# Altium integrated library Wuerth Elektronik Double Choke.IntLib: 55 symbols
Pins are listed as number, name and electrical type; pins without a type are passive.

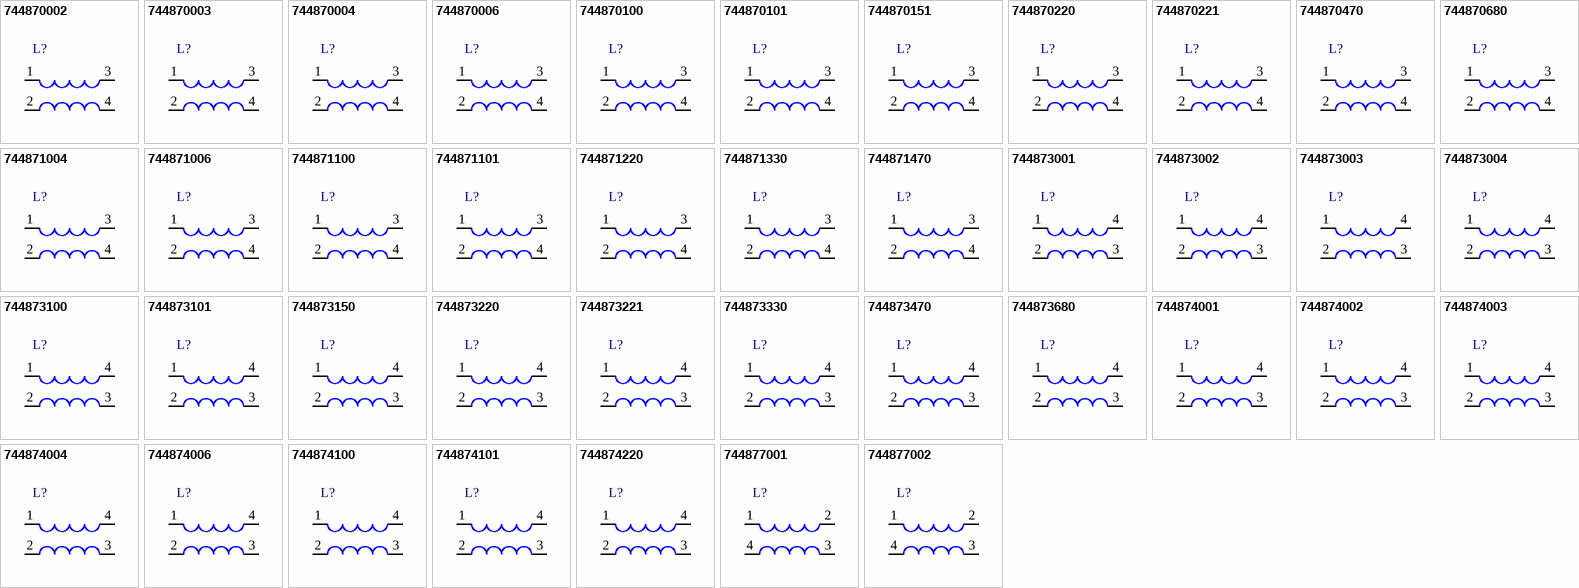
[diagram p0: symbols 744870002 to 744877002]

## 744870002
designator L?
SMD Shielded Coupled Inductor WE-DD, L = 2.40 µH; Inductance: 2.40 µH; DatasheetVersion: ver 1, Aug-2009; PackageVersion: 2006; PackageReference: WE-DD-XL; PackageDescription: SMD Inductor, 4-Leads, Body 12.5 x 12.5 mm; ComponentLink1Description: Manufacturer URL; ComponentLink1URL: http://www.we-online.com; ComponentLink2Description: Datasheet; ComponentLink2URL: http://www.we-online.de/katalog/media/pdf/744870002.pdf
footprint WE-DD-XL (SMD Inductor, 4-Leads, Body 12.5x12.5x8.5 mm)
pins: 1, 2, 3, 4

## 744870003
designator L?
SMD Shielded Coupled Inductor WE-DD, L = 3.30 µH; Inductance: 3.30 µH; DatasheetVersion: ver 1, Aug-2009; PackageVersion: 2006; PackageReference: WE-DD-XL; PackageDescription: SMD Inductor, 4-Leads, Body 12.5 x 12.5 mm; ComponentLink1Description: Manufacturer URL; ComponentLink1URL: http://www.we-online.com; ComponentLink2Description: Datasheet; ComponentLink2URL: http://www.we-online.de/katalog/media/pdf/744870003.pdf
footprint WE-DD-XL (SMD Inductor, 4-Leads, Body 12.5x12.5x8.5 mm)
pins: 1, 2, 3, 4

## 744870004
designator L?
SMD Shielded Coupled Inductor WE-DD, L = 4.70 µH; Inductance: 4.70 µH; DatasheetVersion: ver 7, Mar-2006; PackageVersion: 2006; PackageReference: WE-DD-XL; PackageDescription: SMD Inductor, 4-Leads, Body 12.5 x 12.5 mm; ComponentLink1Description: Manufacturer URL; ComponentLink1URL: http://www.we-online.com; ComponentLink2Description: Datasheet; ComponentLink2URL: http://www.we-online.de/katalog/media/pdf/744870004.pdf
footprint WE-DD-XL (SMD Inductor, 4-Leads, Body 12.5x12.5x8.5 mm)
pins: 1, 2, 3, 4

## 744870006
designator L?
SMD Shielded Coupled Inductor WE-DD, L = 6.80 µH; Inductance: 6.80 µH; DatasheetVersion: ver 6, Mar-2005; PackageVersion: 2006; PackageReference: WE-DD-XL; PackageDescription: SMD Inductor, 4-Leads, Body 12.5 x 12.5 mm; ComponentLink1Description: Manufacturer URL; ComponentLink1URL: http://www.we-online.com; ComponentLink2Description: Datasheet; ComponentLink2URL: http://www.we-online.de/katalog/media/pdf/744870006.pdf
footprint WE-DD-XL (SMD Inductor, 4-Leads, Body 12.5x12.5x8.5 mm)
pins: 1, 2, 3, 4

## 744870100
designator L?
SMD Shielded Coupled Inductor WE-DD, L = 10.0 µH; Inductance: 10.0 µH; DatasheetVersion: ver 6, Mar-2005; PackageVersion: 2006; PackageReference: WE-DD-XL; PackageDescription: SMD Inductor, 4-Leads, Body 12.5 x 12.5 mm; ComponentLink1Description: Manufacturer URL; ComponentLink1URL: http://www.we-online.com; ComponentLink2Description: Datasheet; ComponentLink2URL: http://www.we-online.de/katalog/media/pdf/744870100.pdf
footprint WE-DD-XL (SMD Inductor, 4-Leads, Body 12.5x12.5x8.5 mm)
pins: 1, 2, 3, 4

## 744870101
designator L?
SMD Shielded Coupled Inductor WE-DD, L = 100 µH; Inductance: 100 µH; DatasheetVersion: ver 6, Mar-2005; PackageVersion: 2006; PackageReference: WE-DD-XL; PackageDescription: SMD Inductor, 4-Leads, Body 12.5 x 12.5 mm; ComponentLink1Description: Manufacturer URL; ComponentLink1URL: http://www.we-online.com; ComponentLink2Description: Datasheet; ComponentLink2URL: http://www.we-online.de/katalog/media/pdf/744870101.pdf
footprint WE-DD-XL (SMD Inductor, 4-Leads, Body 12.5x12.5x8.5 mm)
pins: 1, 2, 3, 4

## 744870151
designator L?
SMD Shielded Coupled Inductor WE-DD, L = 150 µH; Inductance: 150 µH; DatasheetVersion: ver 6, Mar-2005; PackageVersion: 2006; PackageReference: WE-DD-XL; PackageDescription: SMD Inductor, 4-Leads, Body 12.5 x 12.5 mm; ComponentLink1Description: Manufacturer URL; ComponentLink1URL: http://www.we-online.com; ComponentLink2Description: Datasheet; ComponentLink2URL: http://www.we-online.de/katalog/media/pdf/744870151.pdf
footprint WE-DD-XL (SMD Inductor, 4-Leads, Body 12.5x12.5x8.5 mm)
pins: 1, 2, 3, 4

## 744870220
designator L?
SMD Shielded Coupled Inductor WE-DD, L = 22.0 µH; Inductance: 22.0 µH; DatasheetVersion: ver 6, Mar-2005; PackageVersion: 2006; PackageReference: WE-DD-XL; PackageDescription: SMD Inductor, 4-Leads, Body 12.5 x 12.5 mm; ComponentLink1Description: Manufacturer URL; ComponentLink1URL: http://www.we-online.com; ComponentLink2Description: Datasheet; ComponentLink2URL: http://www.we-online.de/katalog/media/pdf/744870220.pdf
footprint WE-DD-XL (SMD Inductor, 4-Leads, Body 12.5x12.5x8.5 mm)
pins: 1, 2, 3, 4

## 744870221
designator L?
SMD Shielded Coupled Inductor WE-DD, L = 220 µH; Inductance: 220 µH; DatasheetVersion: ver 6, Mar-2005; PackageVersion: 2006; PackageReference: WE-DD-XL; PackageDescription: SMD Inductor, 4-Leads, Body 12.5 x 12.5 mm; ComponentLink1Description: Manufacturer URL; ComponentLink1URL: http://www.we-online.com; ComponentLink2Description: Datasheet; ComponentLink2URL: http://www.we-online.de/katalog/media/pdf/744870221.pdf
footprint WE-DD-XL (SMD Inductor, 4-Leads, Body 12.5x12.5x8.5 mm)
pins: 1, 2, 3, 4

## 744870470
designator L?
SMD Shielded Coupled Inductor WE-DD, L = 47.0 µH; Inductance: 47.0 µH; DatasheetVersion: ver 6, Mar-2005; PackageVersion: 2006; PackageReference: WE-DD-XL; PackageDescription: SMD Inductor, 4-Leads, Body 12.5 x 12.5 mm; ComponentLink1Description: Manufacturer URL; ComponentLink1URL: http://www.we-online.com; ComponentLink2Description: Datasheet; ComponentLink2URL: http://www.we-online.de/katalog/media/pdf/744870470.pdf
footprint WE-DD-XL (SMD Inductor, 4-Leads, Body 12.5x12.5x8.5 mm)
pins: 1, 2, 3, 4

## 744870680
designator L?
SMD Shielded Coupled Inductor WE-DD, L = 68.0 µH; Inductance: 68.0 µH; DatasheetVersion: ver 6, Mar-2005; PackageVersion: 2006; PackageReference: WE-DD-XL; PackageDescription: SMD Inductor, 4-Leads, Body 12.5 x 12.5 mm; ComponentLink1Description: Manufacturer URL; ComponentLink1URL: http://www.we-online.com; ComponentLink2Description: Datasheet; ComponentLink2URL: http://www.we-online.de/katalog/media/pdf/744870680.pdf
footprint WE-DD-XL (SMD Inductor, 4-Leads, Body 12.5x12.5x8.5 mm)
pins: 1, 2, 3, 4

## 744871004
designator L?
SMD Shielded Coupled Inductor WE-DD, L = 4.70 µH; Inductance: 4.70 µH; DatasheetVersion: ver 6, Mar-2006; PackageVersion: 2006; PackageReference: WE-DD-L; PackageDescription: SMD Inductor, 4-Leads, Body 12.5 x 12.5 mm; ComponentLink1Description: Manufacturer URL; ComponentLink1URL: http://www.we-online.com; ComponentLink2Description: Datasheet; ComponentLink2URL: http://www.we-online.de/katalog/media/pdf/744871004.pdf
footprint WE-DD-L (SMD Inductor, 4-Leads, Body 12.5x12.5x6.5 mm)
pins: 1, 2, 3, 4

## 744871006
designator L?
SMD Shielded Coupled Inductor WE-DD, L = 6.80 µH; Inductance: 6.80 µH; DatasheetVersion: ver 7, Oct-2006; PackageVersion: 2006; PackageReference: WE-DD-L; PackageDescription: SMD Inductor, 4-Leads, Body 12.5 x 12.5 mm; ComponentLink1Description: Manufacturer URL; ComponentLink1URL: http://www.we-online.com; ComponentLink2Description: Datasheet; ComponentLink2URL: http://www.we-online.de/katalog/media/pdf/744871006.pdf
footprint WE-DD-L (SMD Inductor, 4-Leads, Body 12.5x12.5x6.5 mm)
pins: 1, 2, 3, 4

## 744871100
designator L?
SMD Shielded Coupled Inductor WE-DD, L = 10.0 µH; Inductance: 10.0 µH; DatasheetVersion: ver 5, Mar-2005; PackageVersion: 2006; PackageReference: WE-DD-L; PackageDescription: SMD Inductor, 4-Leads, Body 12.5 x 12.5 mm; ComponentLink1Description: Manufacturer URL; ComponentLink1URL: http://www.we-online.com; ComponentLink2Description: Datasheet; ComponentLink2URL: http://www.we-online.de/katalog/media/pdf/744871100.pdf
footprint WE-DD-L (SMD Inductor, 4-Leads, Body 12.5x12.5x6.5 mm)
pins: 1, 2, 3, 4

## 744871101
designator L?
SMD Shielded Coupled Inductor WE-DD, L = 100 µH; Inductance: 100 µH; DatasheetVersion: ver 1, Oct-2005; PackageVersion: 2006; PackageReference: WE-DD-L; PackageDescription: SMD Inductor, 4-Leads, Body 12.5 x 12.5 mm; ComponentLink1Description: Manufacturer URL; ComponentLink1URL: http://www.we-online.com; ComponentLink2Description: Datasheet; ComponentLink2URL: http://www.we-online.de/katalog/media/pdf/744871101.pdf
footprint WE-DD-L (SMD Inductor, 4-Leads, Body 12.5x12.5x6.5 mm)
pins: 1, 2, 3, 4

## 744871220
designator L?
SMD Shielded Coupled Inductor WE-DD, L = 22.0 µH; Inductance: 22.0 µH; DatasheetVersion: ver 5, Mar-2005; PackageVersion: 2006; PackageReference: WE-DD-L; PackageDescription: SMD Inductor, 4-Leads, Body 12.5 x 12.5 mm; ComponentLink1Description: Manufacturer URL; ComponentLink1URL: http://www.we-online.com; ComponentLink2Description: Datasheet; ComponentLink2URL: http://www.we-online.de/katalog/media/pdf/744871220.pdf
footprint WE-DD-L (SMD Inductor, 4-Leads, Body 12.5x12.5x6.5 mm)
pins: 1, 2, 3, 4

## 744871330
designator L?
SMD Shielded Coupled Inductor WE-DD, L = 33.0 µH; Inductance: 33.0 µH; DatasheetVersion: ver 5, Mar-2005; PackageVersion: 2006; PackageReference: WE-DD-L; PackageDescription: SMD Inductor, 4-Leads, Body 12.5 x 12.5 mm; ComponentLink1Description: Manufacturer URL; ComponentLink1URL: http://www.we-online.com; ComponentLink2Description: Datasheet; ComponentLink2URL: http://www.we-online.de/katalog/media/pdf/744871330.pdf
footprint WE-DD-L (SMD Inductor, 4-Leads, Body 12.5x12.5x6.5 mm)
pins: 1, 2, 3, 4

## 744871470
designator L?
SMD Shielded Coupled Inductor WE-DD, L = 47.0 µH; Inductance: 47.0 µH; DatasheetVersion: ver 5, Mar-2005; PackageVersion: 2006; PackageReference: WE-DD-L; PackageDescription: SMD Inductor, 4-Leads, Body 12.5 x 12.5 mm; ComponentLink1Description: Manufacturer URL; ComponentLink1URL: http://www.we-online.com; ComponentLink2Description: Datasheet; ComponentLink2URL: http://www.we-online.de/katalog/media/pdf/744871470.pdf
footprint WE-DD-L (SMD Inductor, 4-Leads, Body 12.5x12.5x6.5 mm)
pins: 1, 2, 3, 4

## 744873001
designator L?
SMD Shielded Coupled Inductor WE-DD, L = 1.50 µH; Inductance: 1.50 µH; DatasheetVersion: ver 1, Nov-2009; PackageVersion: 2006; PackageReference: WE-DD-XL; PackageDescription: SMD Inductor, 4-Leads, Body 12.5 x 12.5 mm; ComponentLink1Description: Manufacturer URL; ComponentLink1URL: http://www.we-online.com; ComponentLink2Description: Datasheet; ComponentLink2URL: http://www.we-online.de/katalog/media/pdf/744873001.pdf
footprint WE-DD-XL (SMD Inductor, 4-Leads, Body 12.5x12.5x8.5 mm)
pins: 1, 2, 3, 4

## 744873002
designator L?
SMD Shielded Coupled Inductor WE-DD, L = 2.40 µH; Inductance: 2.40 µH; DatasheetVersion: ver 1, Nov-2009; PackageVersion: 2006; PackageReference: WE-DD-XL; PackageDescription: SMD Inductor, 4-Leads, Body 12.5 x 12.5 mm; ComponentLink1Description: Manufacturer URL; ComponentLink1URL: http://www.we-online.com; ComponentLink2Description: Datasheet; ComponentLink2URL: http://www.we-online.de/katalog/media/pdf/744873002.pdf
footprint WE-DD-XL (SMD Inductor, 4-Leads, Body 12.5x12.5x8.5 mm)
pins: 1, 2, 3, 4

## 744873003
designator L?
SMD Shielded Coupled Inductor WE-DD, L = 3.30 µH; Inductance: 3.30 µH; DatasheetVersion: ver 1, Nov-2009; PackageVersion: 2006; PackageReference: WE-DD-XL; PackageDescription: SMD Inductor, 4-Leads, Body 12.5 x 12.5 mm; ComponentLink1Description: Manufacturer URL; ComponentLink1URL: http://www.we-online.com; ComponentLink2Description: Datasheet; ComponentLink2URL: http://www.we-online.de/katalog/media/pdf/744873003.pdf
footprint WE-DD-XL (SMD Inductor, 4-Leads, Body 12.5x12.5x8.5 mm)
pins: 1, 2, 3, 4

## 744873004
designator L?
SMD Shielded Coupled Inductor WE-DD, L = 4.70 µH; Inductance: 4.70 µH; DatasheetVersion: ver 1, Nov-2009; PackageVersion: 2006; PackageReference: WE-DD-XL; PackageDescription: SMD Inductor, 4-Leads, Body 12.5 x 12.5 mm; ComponentLink1Description: Manufacturer URL; ComponentLink1URL: http://www.we-online.com; ComponentLink2Description: Datasheet; ComponentLink2URL: http://www.we-online.de/katalog/media/pdf/744873004.pdf
footprint WE-DD-XL (SMD Inductor, 4-Leads, Body 12.5x12.5x8.5 mm)
pins: 1, 2, 3, 4

## 744873100
designator L?
SMD Shielded Coupled Inductor WE-DD, L = 10.0 µH; Inductance: 10.0 µH; DatasheetVersion: ver 1, Nov-2009; PackageVersion: 2006; PackageReference: WE-DD-XL; PackageDescription: SMD Inductor, 4-Leads, Body 12.5 x 12.5 mm; ComponentLink1Description: Manufacturer URL; ComponentLink1URL: http://www.we-online.com; ComponentLink2Description: Datasheet; ComponentLink2URL: http://www.we-online.de/katalog/media/pdf/744873100.pdf
footprint WE-DD-XL (SMD Inductor, 4-Leads, Body 12.5x12.5x8.5 mm)
pins: 1, 2, 3, 4

## 744873101
designator L?
SMD Shielded Coupled Inductor WE-DD, L = 100 µH; Inductance: 100 µH; DatasheetVersion: ver 1, Nov-2009; PackageVersion: 2006; PackageReference: WE-DD-XL; PackageDescription: SMD Inductor, 4-Leads, Body 12.5 x 12.5 mm; ComponentLink1Description: Manufacturer URL; ComponentLink1URL: http://www.we-online.com; ComponentLink2Description: Datasheet; ComponentLink2URL: http://www.we-online.de/katalog/media/pdf/744873101.pdf
footprint WE-DD-XL (SMD Inductor, 4-Leads, Body 12.5x12.5x8.5 mm)
pins: 1, 2, 3, 4

## 744873150
designator L?
SMD Shielded Coupled Inductor WE-DD, L = 15.0 µH; Inductance: 15.0 µH; DatasheetVersion: ver 1, Nov-2009; PackageVersion: 2006; PackageReference: WE-DD-XL; PackageDescription: SMD Inductor, 4-Leads, Body 12.5 x 12.5 mm; ComponentLink1Description: Manufacturer URL; ComponentLink1URL: http://www.we-online.com; ComponentLink2Description: Datasheet; ComponentLink2URL: http://www.we-online.de/katalog/media/pdf/744873150.pdf
footprint WE-DD-XL (SMD Inductor, 4-Leads, Body 12.5x12.5x8.5 mm)
pins: 1, 2, 3, 4

## 744873220
designator L?
SMD Shielded Coupled Inductor WE-DD, L = 22.0 µH; Inductance: 22.0 µH; DatasheetVersion: ver 1, Nov-2009; PackageVersion: 2006; PackageReference: WE-DD-XL; PackageDescription: SMD Inductor, 4-Leads, Body 12.5 x 12.5 mm; ComponentLink1Description: Manufacturer URL; ComponentLink1URL: http://www.we-online.com; ComponentLink2Description: Datasheet; ComponentLink2URL: http://www.we-online.de/katalog/media/pdf/744873220.pdf
footprint WE-DD-XL (SMD Inductor, 4-Leads, Body 12.5x12.5x8.5 mm)
pins: 1, 2, 3, 4

## 744873221
designator L?
SMD Shielded Coupled Inductor WE-DD, L = 220 µH; Inductance: 220 µH; DatasheetVersion: ver 1, Nov-2009; PackageVersion: 2006; PackageReference: WE-DD-XL; PackageDescription: SMD Inductor, 4-Leads, Body 12.5 x 12.5 mm; ComponentLink1Description: Manufacturer URL; ComponentLink1URL: http://www.we-online.com; ComponentLink2Description: Datasheet; ComponentLink2URL: http://www.we-online.de/katalog/media/pdf/744873221.pdf
footprint WE-DD-XL (SMD Inductor, 4-Leads, Body 12.5x12.5x8.5 mm)
pins: 1, 2, 3, 4

## 744873330
designator L?
SMD Shielded Coupled Inductor WE-DD, L = 33.0 µH; Inductance: 33.0 µH; DatasheetVersion: ver 1, Nov-2009; PackageVersion: 2006; PackageReference: WE-DD-XL; PackageDescription: SMD Inductor, 4-Leads, Body 12.5 x 12.5 mm; ComponentLink1Description: Manufacturer URL; ComponentLink1URL: http://www.we-online.com; ComponentLink2Description: Datasheet; ComponentLink2URL: http://www.we-online.de/katalog/media/pdf/744873330.pdf
footprint WE-DD-XL (SMD Inductor, 4-Leads, Body 12.5x12.5x8.5 mm)
pins: 1, 2, 3, 4

## 744873470
designator L?
SMD Shielded Coupled Inductor WE-DD, L = 47.0 µH; Inductance: 47.0 µH; DatasheetVersion: ver 1, Nov-2009; PackageVersion: 2006; PackageReference: WE-DD-XL; PackageDescription: SMD Inductor, 4-Leads, Body 12.5 x 12.5 mm; ComponentLink1Description: Manufacturer URL; ComponentLink1URL: http://www.we-online.com; ComponentLink2Description: Datasheet; ComponentLink2URL: http://www.we-online.de/katalog/media/pdf/744873470.pdf
footprint WE-DD-XL (SMD Inductor, 4-Leads, Body 12.5x12.5x8.5 mm)
pins: 1, 2, 3, 4

## 744873680
designator L?
SMD Shielded Coupled Inductor WE-DD, L = 68.0 µH; Inductance: 68.0 µH; DatasheetVersion: ver 1, Nov-2009; PackageVersion: 2006; PackageReference: WE-DD-XL; PackageDescription: SMD Inductor, 4-Leads, Body 12.5 x 12.5 mm; ComponentLink1Description: Manufacturer URL; ComponentLink1URL: http://www.we-online.com; ComponentLink2Description: Datasheet; ComponentLink2URL: http://www.we-online.de/katalog/media/pdf/744873680.pdf
footprint WE-DD-XL (SMD Inductor, 4-Leads, Body 12.5x12.5x8.5 mm)
pins: 1, 2, 3, 4

## 744874001
designator L?
SMD Shielded Coupled Inductor WE-DD, L = 1.50 µH; Inductance: 1.50 µH; DatasheetVersion: ver 1, Nov-2009; PackageVersion: 2006; PackageReference: WE-DD-L; PackageDescription: SMD Inductor, 4-Leads, Body 12.5 x 12.5 mm; ComponentLink1Description: Manufacturer URL; ComponentLink1URL: http://www.we-online.com; ComponentLink2Description: Datasheet; ComponentLink2URL: http://www.we-online.de/katalog/media/pdf/744874001.pdf
footprint WE-DD-L (SMD Inductor, 4-Leads, Body 12.5x12.5x6.5 mm)
pins: 1, 2, 3, 4

## 744874002
designator L?
SMD Shielded Coupled Inductor WE-DD, L = 2.40 µH; Inductance: 2.40 µH; DatasheetVersion: ver 1, Nov-2009; PackageVersion: 2006; PackageReference: WE-DD-L; PackageDescription: SMD Inductor, 4-Leads, Body 12.5 x 12.5 mm; ComponentLink1Description: Manufacturer URL; ComponentLink1URL: http://www.we-online.com; ComponentLink2Description: Datasheet; ComponentLink2URL: http://www.we-online.de/katalog/media/pdf/744874002.pdf
footprint WE-DD-L (SMD Inductor, 4-Leads, Body 12.5x12.5x6.5 mm)
pins: 1, 2, 3, 4

## 744874003
designator L?
SMD Shielded Coupled Inductor WE-DD, L = 3.30 µH; Inductance: 3.30 µH; DatasheetVersion: ver 1, Nov-2009; PackageVersion: 2006; PackageReference: WE-DD-L; PackageDescription: SMD Inductor, 4-Leads, Body 12.5 x 12.5 mm; ComponentLink1Description: Manufacturer URL; ComponentLink1URL: http://www.we-online.com; ComponentLink2Description: Datasheet; ComponentLink2URL: http://www.we-online.de/katalog/media/pdf/744874003.pdf
footprint WE-DD-L (SMD Inductor, 4-Leads, Body 12.5x12.5x6.5 mm)
pins: 1, 2, 3, 4

## 744874004
designator L?
SMD Shielded Coupled Inductor WE-DD, L = 4.70 µH; Inductance: 4.70 µH; DatasheetVersion: ver 1, Nov-2009; PackageVersion: 2006; PackageReference: WE-DD-L; PackageDescription: SMD Inductor, 4-Leads, Body 12.5 x 12.5 mm; ComponentLink1Description: Manufacturer URL; ComponentLink1URL: http://www.we-online.com; ComponentLink2Description: Datasheet; ComponentLink2URL: http://www.we-online.de/katalog/media/pdf/744874004.pdf
footprint WE-DD-L (SMD Inductor, 4-Leads, Body 12.5x12.5x6.5 mm)
pins: 1, 2, 3, 4

## 744874006
designator L?
SMD Shielded Coupled Inductor WE-DD, L = 6.80 µH; Inductance: 6.80 µH; DatasheetVersion: ver 1, Nov-2009; PackageVersion: 2006; PackageReference: WE-DD-L; PackageDescription: SMD Inductor, 4-Leads, Body 12.5 x 12.5 mm; ComponentLink1Description: Manufacturer URL; ComponentLink1URL: http://www.we-online.com; ComponentLink2Description: Datasheet; ComponentLink2URL: http://www.we-online.de/katalog/media/pdf/744874006.pdf
footprint WE-DD-L (SMD Inductor, 4-Leads, Body 12.5x12.5x6.5 mm)
pins: 1, 2, 3, 4

## 744874100
designator L?
SMD Shielded Coupled Inductor WE-DD, L = 10.0 µH; Inductance: 10.0 µH; DatasheetVersion: ver 1, Nov-2009; PackageVersion: 2006; PackageReference: WE-DD-L; PackageDescription: SMD Inductor, 4-Leads, Body 12.5 x 12.5 mm; ComponentLink1Description: Manufacturer URL; ComponentLink1URL: http://www.we-online.com; ComponentLink2Description: Datasheet; ComponentLink2URL: http://www.we-online.de/katalog/media/pdf/744874100.pdf
footprint WE-DD-L (SMD Inductor, 4-Leads, Body 12.5x12.5x6.5 mm)
pins: 1, 2, 3, 4

## 744874101
designator L?
SMD Shielded Coupled Inductor WE-DD, L = 100 µH; Inductance: 100 µH; DatasheetVersion: ver 1, Nov-2009; PackageVersion: 2006; PackageReference: WE-DD-L; PackageDescription: SMD Inductor, 4-Leads, Body 12.5 x 12.5 mm; ComponentLink1Description: Manufacturer URL; ComponentLink1URL: http://www.we-online.com; ComponentLink2Description: Datasheet; ComponentLink2URL: http://www.we-online.de/katalog/media/pdf/744874101.pdf
footprint WE-DD-L (SMD Inductor, 4-Leads, Body 12.5x12.5x6.5 mm)
pins: 1, 2, 3, 4

## 744874220
designator L?
SMD Shielded Coupled Inductor WE-DD, L = 22.0 µH; Inductance: 22.0 µH; DatasheetVersion: ver 1, Nov-2009; PackageVersion: 2006; PackageReference: WE-DD-L; PackageDescription: SMD Inductor, 4-Leads, Body 12.5 x 12.5 mm; ComponentLink1Description: Manufacturer URL; ComponentLink1URL: http://www.we-online.com; ComponentLink2Description: Datasheet; ComponentLink2URL: http://www.we-online.de/katalog/media/pdf/744874220.pdf
footprint WE-DD-L (SMD Inductor, 4-Leads, Body 12.5x12.5x6.5 mm)
pins: 1, 2, 3, 4

## 744877001
designator L?
SMD Shielded Coupled Inductor WE-DD, L = 1.80 µH; Inductance: 1.80 µH; DatasheetVersion: ver 1, Sep-2009; PackageVersion: 2005; PackageReference: WE-DD-M; PackageDescription: SMD Inductor, 4-Leads, Body 7.7 x 7.7 mm; ComponentLink1Description: Manufacturer URL; ComponentLink1URL: http://www.we-online.com; ComponentLink2Description: Datasheet; ComponentLink2URL: http://www.we-online.de/katalog/media/pdf/744877001.pdf
footprint WE-DD-M (SMD Inductor, 4-Leads, Body 7.7x7.7x4.8 mm)
pins: 1, 2, 3, 4

## 744877002
designator L?
SMD Shielded Coupled Inductor WE-DD, L = 2.40 µH; Inductance: 2.40 µH; DatasheetVersion: ver 1, Sep-2009; PackageVersion: 2005; PackageReference: WE-DD-M; PackageDescription: SMD Inductor, 4-Leads, Body 7.7 x 7.7 mm; ComponentLink1Description: Manufacturer URL; ComponentLink1URL: http://www.we-online.com; ComponentLink2Description: Datasheet; ComponentLink2URL: http://www.we-online.de/katalog/media/pdf/744877002.pdf
footprint WE-DD-M (SMD Inductor, 4-Leads, Body 7.7x7.7x4.8 mm)
pins: 1, 2, 3, 4

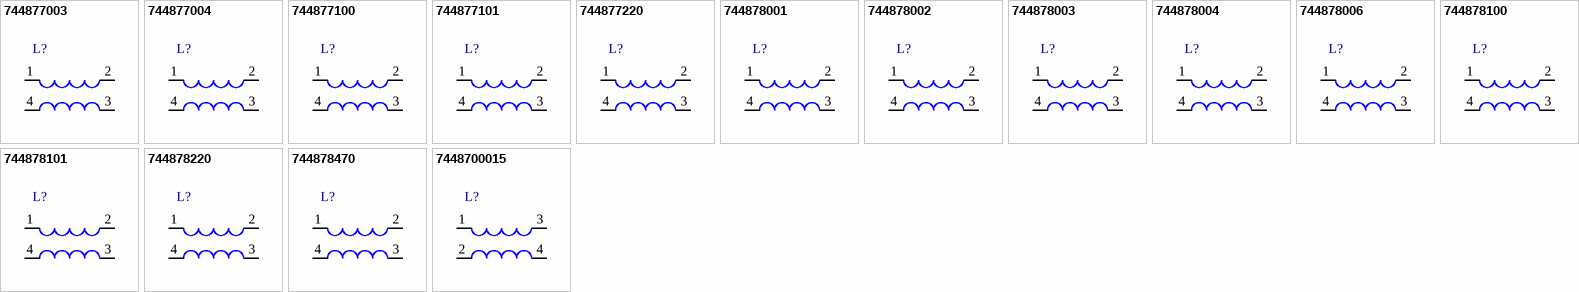
[diagram p1: symbols 744877003 to 7448700015]

## 744877003
designator L?
SMD Shielded Coupled Inductor WE-DD, L = 3.30 µH; Inductance: 3.30 µH; DatasheetVersion: ver 1, Sep-2009; PackageVersion: 2005; PackageReference: WE-DD-M; PackageDescription: SMD Inductor, 4-Leads, Body 7.7 x 7.7 mm; ComponentLink1Description: Manufacturer URL; ComponentLink1URL: http://www.we-online.com; ComponentLink2Description: Datasheet; ComponentLink2URL: http://www.we-online.de/katalog/media/pdf/744877003.pdf
footprint WE-DD-M (SMD Inductor, 4-Leads, Body 7.7x7.7x4.8 mm)
pins: 1, 2, 3, 4

## 744877004
designator L?
SMD Shielded Coupled Inductor WE-DD, L = 4.70 µH; Inductance: 4.70 µH; DatasheetVersion: ver 8, May-2005; PackageVersion: 2005; PackageReference: WE-DD-M; PackageDescription: SMD Inductor, 4-Leads, Body 7.7 x 7.7 mm; ComponentLink1Description: Manufacturer URL; ComponentLink1URL: http://www.we-online.com; ComponentLink2Description: Datasheet; ComponentLink2URL: http://www.we-online.de/katalog/media/pdf/744877004.pdf
footprint WE-DD-M (SMD Inductor, 4-Leads, Body 7.7x7.7x4.8 mm)
pins: 1, 2, 3, 4

## 744877100
designator L?
SMD Shielded Coupled Inductor WE-DD, L = 10.0 µH; Inductance: 10.0 µH; DatasheetVersion: ver 8, May-2005; PackageVersion: 2005; PackageReference: WE-DD-M; PackageDescription: SMD Inductor, 4-Leads, Body 7.7 x 7.7 mm; ComponentLink1Description: Manufacturer URL; ComponentLink1URL: http://www.we-online.com; ComponentLink2Description: Datasheet; ComponentLink2URL: http://www.we-online.de/katalog/media/pdf/744877100.pdf
footprint WE-DD-M (SMD Inductor, 4-Leads, Body 7.7x7.7x4.8 mm)
pins: 1, 2, 3, 4

## 744877101
designator L?
SMD Shielded Coupled Inductor WE-DD, L = 100 µH; Inductance: 100 µH; DatasheetVersion: ver 1, Oct-2005; PackageVersion: 2005; PackageReference: WE-DD-M; PackageDescription: SMD Inductor, 4-Leads, Body 7.7 x 7.7 mm; ComponentLink1Description: Manufacturer URL; ComponentLink1URL: http://www.we-online.com; ComponentLink2Description: Datasheet; ComponentLink2URL: http://www.we-online.de/katalog/media/pdf/744877101.pdf
footprint WE-DD-M (SMD Inductor, 4-Leads, Body 7.7x7.7x4.8 mm)
pins: 1, 2, 3, 4

## 744877220
designator L?
SMD Shielded Coupled Inductor WE-DD, L = 22.0 µH; Inductance: 22.0 µH; DatasheetVersion: ver 8, May-2005; PackageVersion: 2005; PackageReference: WE-DD-M; PackageDescription: SMD Inductor, 4-Leads, Body 7.7 x 7.7 mm; ComponentLink1Description: Manufacturer URL; ComponentLink1URL: http://www.we-online.com; ComponentLink2Description: Datasheet; ComponentLink2URL: http://www.we-online.de/katalog/media/pdf/744877220.pdf
footprint WE-DD-M (SMD Inductor, 4-Leads, Body 7.7x7.7x4.8 mm)
pins: 1, 2, 3, 4

## 744878001
designator L?
SMD Shielded Coupled Inductor WE-DD, L = 1.30 µH; Inductance: 1.30 µH; DatasheetVersion: ver 1, Sep-2009; PackageVersion: 2005; PackageReference: WE-DD-S; PackageDescription: SMD Inductor, 4-Leads, Body 7.7 x 7.7 mm; ComponentLink1Description: Manufacturer URL; ComponentLink1URL: http://www.we-online.com; ComponentLink2Description: Datasheet; ComponentLink2URL: http://www.we-online.de/katalog/media/pdf/744878001.pdf
footprint WE-DD-S (SMD Inductor, 4-Leads, Body 7.7x7.7x4.0 mm)
pins: 1, 2, 3, 4

## 744878002
designator L?
SMD Shielded Coupled Inductor WE-DD, L = 2.40 µH; Inductance: 2.40 µH; DatasheetVersion: ver 1, Sep-2009; PackageVersion: 2005; PackageReference: WE-DD-S; PackageDescription: SMD Inductor, 4-Leads, Body 7.7 x 7.7 mm; ComponentLink1Description: Manufacturer URL; ComponentLink1URL: http://www.we-online.com; ComponentLink2Description: Datasheet; ComponentLink2URL: http://www.we-online.de/katalog/media/pdf/744878002.pdf
footprint WE-DD-S (SMD Inductor, 4-Leads, Body 7.7x7.7x4.0 mm)
pins: 1, 2, 3, 4

## 744878003
designator L?
SMD Shielded Coupled Inductor WE-DD, L = 3.30 µH; Inductance: 3.30 µH; DatasheetVersion: ver 1, Sep-2009; PackageVersion: 2005; PackageReference: WE-DD-S; PackageDescription: SMD Inductor, 4-Leads, Body 7.7 x 7.7 mm; ComponentLink1Description: Manufacturer URL; ComponentLink1URL: http://www.we-online.com; ComponentLink2Description: Datasheet; ComponentLink2URL: http://www.we-online.de/katalog/media/pdf/744878003.pdf
footprint WE-DD-S (SMD Inductor, 4-Leads, Body 7.7x7.7x4.0 mm)
pins: 1, 2, 3, 4

## 744878004
designator L?
SMD Shielded Coupled Inductor WE-DD, L = 4.70 µH; Inductance: 4.70 µH; DatasheetVersion: ver 7, May-2005; PackageVersion: 2005; PackageReference: WE-DD-S; PackageDescription: SMD Inductor, 4-Leads, Body 7.7 x 7.7 mm; ComponentLink1Description: Manufacturer URL; ComponentLink1URL: http://www.we-online.com; ComponentLink2Description: Datasheet; ComponentLink2URL: http://www.we-online.de/katalog/media/pdf/744878004.pdf
footprint WE-DD-S (SMD Inductor, 4-Leads, Body 7.7x7.7x4.0 mm)
pins: 1, 2, 3, 4

## 744878006
designator L?
SMD Shielded Coupled Inductor WE-DD, L = 6.80 µH; Inductance: 6.80 µH; DatasheetVersion: ver 7, May-2005; PackageVersion: 2005; PackageReference: WE-DD-S; PackageDescription: SMD Inductor, 4-Leads, Body 7.7 x 7.7 mm; ComponentLink1Description: Manufacturer URL; ComponentLink1URL: http://www.we-online.com; ComponentLink2Description: Datasheet; ComponentLink2URL: http://www.we-online.de/katalog/media/pdf/744878006.pdf
footprint WE-DD-S (SMD Inductor, 4-Leads, Body 7.7x7.7x4.0 mm)
pins: 1, 2, 3, 4

## 744878100
designator L?
SMD Shielded Coupled Inductor WE-DD, L = 10.0 µH; Inductance: 10.0 µH; DatasheetVersion: ver 8, Jun-2010; PackageVersion: 2005; PackageReference: WE-DD-S; PackageDescription: SMD Inductor, 4-Leads, Body 7.7 x 7.7 mm; ComponentLink1Description: Manufacturer URL; ComponentLink1URL: http://www.we-online.com; ComponentLink2Description: Datasheet; ComponentLink2URL: http://www.we-online.de/katalog/media/pdf/744878100.pdf
footprint WE-DD-S (SMD Inductor, 4-Leads, Body 7.7x7.7x4.0 mm)
pins: 1, 2, 3, 4

## 744878101
designator L?
SMD Shielded Coupled Inductor WE-DD, L = 100 µH; Inductance: 100 µH; DatasheetVersion: ver 1, Jul-2005; PackageVersion: 2005; PackageReference: WE-DD-S; PackageDescription: SMD Inductor, 4-Leads, Body 7.7 x 7.7 mm; ComponentLink1Description: Manufacturer URL; ComponentLink1URL: http://www.we-online.com; ComponentLink2Description: Datasheet; ComponentLink2URL: http://www.we-online.de/katalog/media/pdf/744878101.pdf
footprint WE-DD-S (SMD Inductor, 4-Leads, Body 7.7x7.7x4.0 mm)
pins: 1, 2, 3, 4

## 744878220
designator L?
SMD Shielded Coupled Inductor WE-DD, L = 22.0 µH; Inductance: 22.0 µH; DatasheetVersion: ver 7, May-2005; PackageVersion: 2005; PackageReference: WE-DD-S; PackageDescription: SMD Inductor, 4-Leads, Body 7.7 x 7.7 mm; ComponentLink1Description: Manufacturer URL; ComponentLink1URL: http://www.we-online.com; ComponentLink2Description: Datasheet; ComponentLink2URL: http://www.we-online.de/katalog/media/pdf/744878220.pdf
footprint WE-DD-S (SMD Inductor, 4-Leads, Body 7.7x7.7x4.0 mm)
pins: 1, 2, 3, 4

## 744878470
designator L?
SMD Shielded Coupled Inductor WE-DD, L = 47.0 µH; Inductance: 47.0 µH; DatasheetVersion: ver 7, May-2005; PackageVersion: 2005; PackageReference: WE-DD-S; PackageDescription: SMD Inductor, 4-Leads, Body 7.7 x 7.7 mm; ComponentLink1Description: Manufacturer URL; ComponentLink1URL: http://www.we-online.com; ComponentLink2Description: Datasheet; ComponentLink2URL: http://www.we-online.de/katalog/media/pdf/744878470.pdf
footprint WE-DD-S (SMD Inductor, 4-Leads, Body 7.7x7.7x4.0 mm)
pins: 1, 2, 3, 4

## 7448700015
designator L?
SMD Shielded Coupled Inductor WE-DD, L = 1.50 µH; Inductance: 1.50 µH; DatasheetVersion: ver 1, Aug-2009; PackageVersion: 2006; PackageReference: WE-DD-XL; PackageDescription: SMD Inductor, 4-Leads, Body 12.5 x 12.5 mm; ComponentLink1Description: Manufacturer URL; ComponentLink1URL: http://www.we-online.com; ComponentLink2Description: Datasheet; ComponentLink2URL: http://www.we-online.de/katalog/media/pdf/7448700015.pdf
footprint WE-DD-XL (SMD Inductor, 4-Leads, Body 12.5x12.5x8.5 mm)
pins: 1, 2, 3, 4